# EAGLE library part SA612A (library _RoweTel)
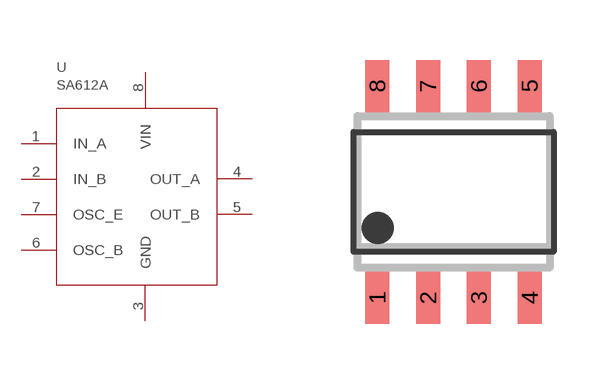
[diagram p80: symbol with the pads of SO-08; footprint SO-08]

Designator prefix U

## SA612A  [SO-08]
1  IN_A
2  IN_B
3  GND
4  OUT_A
5  OUT_B
6  OSC_B
7  OSC_E
8  VIN

## Footprint SO-08 (pad centres in mm)
Small Outline Narrow Plastic Gull Wing 150-mil body, package type SN
smd 0.6 x 1.3: 1 -1.905,-2.65; 2 -0.635,-2.65; 3 0.635,-2.65; 4 1.905,-2.65; 5 1.905,2.65; 6 0.635,2.65; 7 -0.635,2.65; 8 -1.905,2.65